# EAGLE library part 74VHC74M (library Fairchild_By_element14_Batch_1)
Dual D-Type Flip-Flop
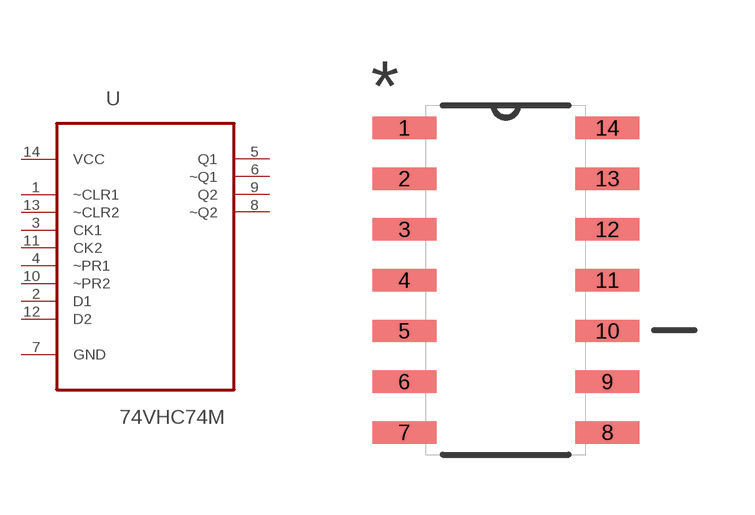
[diagram p145: symbol with the pads of SOIC127P600X175-14N; footprint SOIC127P600X175-14N]

Designator prefix U

## 74VHC74M (MPN: 74VHC74M; OC_FARNELL: 1014108; OC_NEWARK: 78K6389; PACKAGE: SOIC-14; SUPPLIER: Fairchild)  [SOIC127P600X175-14N]
1  ~CLR1  in
2  D1  in
3  CK1  in
4  ~PR1  in
5  Q1  out
6  ~Q1  out
7  GND  pas
8  ~Q2  out
9  Q2  out
10  ~PR2  in
11  CK2  in
12  D2  in
13  ~CLR2  in
14  VCC  pwr

## Footprint SOIC127P600X175-14N (pad centres in mm)
smd 1.6 x 0.559: 1 -2.54,3.81; 2 -2.54,2.54; 3 -2.54,1.27; 4 -2.54,0; 5 -2.54,-1.27; 6 -2.54,-2.54; 7 -2.54,-3.81; 8 2.54,-3.81; 9 2.54,-2.54; 10 2.54,-1.27; 11 2.54,0; 12 2.54,1.27; 13 2.54,2.54; 14 2.54,3.81